# Altium schematic symbol library REF30xx.SchLib: 1 symbol
Pins are listed as number, name and electrical type; pins without a type are passive.

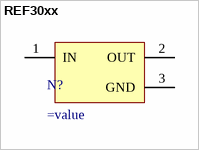
[diagram p0: symbol REF30xx]

## REF30xx
designator N?
Voltage reference
footprint ZSOT23A
pins: 1 IN (power), 2 OUT (power), 3 GND (power)